# EAGLE library part MPX4115A (library mpx-freescale)
Integrated Silicon Pressure Sensor for Manifold Absolute Pressure, Altimeter or Barometer Applications On-Chip Signal Conditioned, Temperature Compensated and Calibrated INTEGRATED PRESSURE SENSOR 15 to 115 kPa (2.2 to 16.7 psi) 0.2 to 4.8 Volts Output
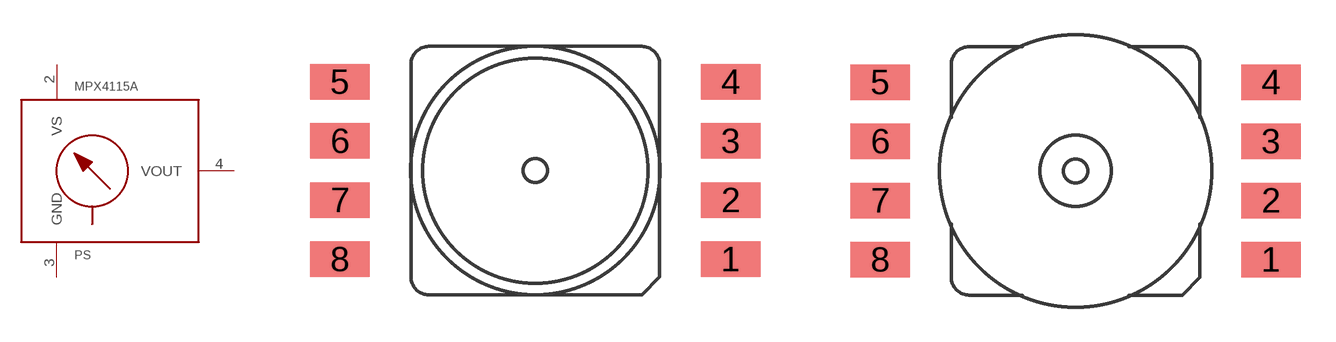
[diagram p1: symbol with the pads of 482; footprints 482, 482A]

Designator prefix PS

## MPX4115A6U  [482]
1  NC  nc
2  VS  pwr
3  GND  pwr
4  VOUT  out
5  NC  nc
6  NC  nc

## MPX4115AC6U  [482A]
Pads as for 482

## MPX4115A-H  [867-H]
1  VOUT  out
2  GND  pwr
3  VS  pwr
4  NC  nc
5  NC  nc
6  NC  nc

## MPX4115A-V  [867-V]
Pads as for 867-H

## MPX4115AP-H  [867B-H]
Pads as for 867-H

## MPX4115AP-V  [867B-V]
Pads as for 867-H

## MPX4115AS-H  [867E-H]
Pads as for 867-H

## MPX4115AS-V  [867E-V]
Pads as for 867-H

## Footprint 482 (pad centres in mm)
Small Outline Package 482-01
smd 2.54 x 1.524: 1 8.382,-3.81; 2 8.382,-1.27; 3 8.382,1.27; 4 8.382,3.81; 5 -8.382,3.81; 6 -8.382,1.27; 7 -8.382,-1.27; 8 -8.382,-3.81

## Footprint 482A (pad centres in mm)
Small Outline Package 482A-01
smd 2.54 x 1.524: 1 8.382,-3.81; 2 8.382,-1.27; 3 8.382,1.27; 4 8.382,3.81; 5 -8.382,3.81; 6 -8.382,1.27; 7 -8.382,-1.27; 8 -8.382,-3.81

## Footprint 867-H (pad centres in mm)
Basic Element Unibody Package 867-08 Horizontal Mount
drill 1.016 long: 1 -6.35,-12.192; 2 -3.81,-12.192; 3 -1.27,-12.192; 4 1.27,-12.192; 5 3.81,-12.192; 6 6.35,-12.192

## Footprint 867-V (pad centres in mm)
Basic Element Unibody Package 867-08 Vertical Mount
drill 1.016 long: 1 -6.35,0; 2 -3.81,0; 3 -1.27,0; 4 1.27,0; 5 3.81,0; 6 6.35,0

## Footprint 867B-H (pad centres in mm)
Pressure Side Ported (AP, GP) Unibody Package 867B-04 Horizontal Mount
drill 1.016 long: 1 -6.35,-12.192; 2 -3.81,-12.192; 3 -1.27,-12.192; 4 1.27,-12.192; 5 3.81,-12.192; 6 6.35,-12.192
hole 4.064 at -11.557,0
hole 4.064 at 11.557,0

## Footprint 867B-V (pad centres in mm)
Pressure Side Ported (AP, GP) Unibody Package 867B-04 Vertical Mount
drill 1.016 long: 1 -6.35,0; 2 -3.81,0; 3 -1.27,0; 4 1.27,0; 5 3.81,0; 6 6.35,0

## Footprint 867E-H (pad centres in mm)
Pressure Side Ported (AP, GP) Unibody Package 867E-03 Horizontal Mount
drill 1.016 long: 1 -6.35,-12.192; 2 -3.81,-12.192; 3 -1.27,-12.192; 4 1.27,-12.192; 5 3.81,-12.192; 6 6.35,-12.192

## Footprint 867E-V (pad centres in mm)
Pressure Side Ported (AP, GP) Unibody Package 867E-03 Vertical Mount
drill 1.016 long: 1 -6.35,0; 2 -3.81,0; 3 -1.27,0; 4 1.27,0; 5 3.81,0; 6 6.35,0